# Altium footprint library WSON-12(2.0X3.0).PcbLib: 1 footprints
Each footprint in its own frame and in the unit in brackets; x right, y up, seen from the top. Pads: shape width x height; smd on the part's side, far side on the other; paste and mask are expansions set on the pad; w line width, h text height; cw(c..) or ccw(c..) is an arc to the next point about the centre after c.
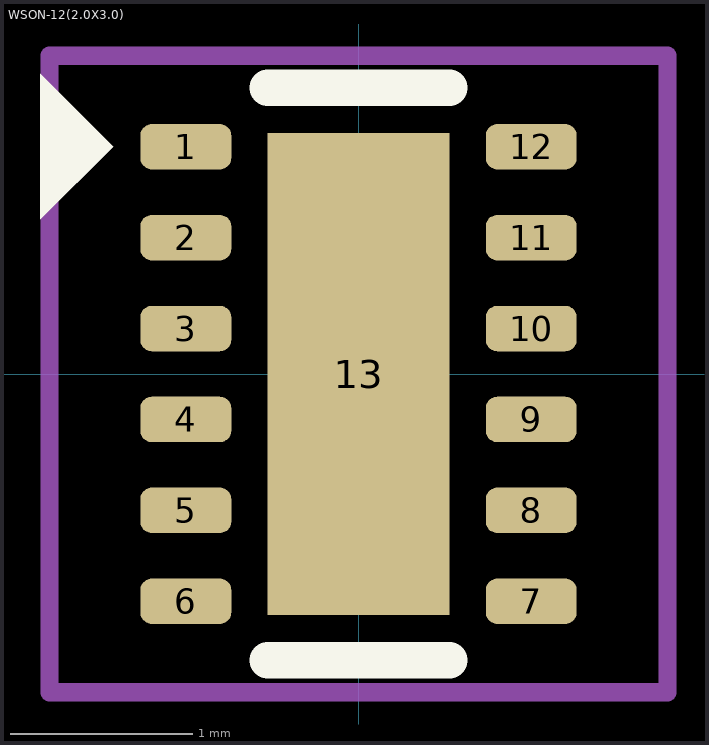
[diagram p0: the footprint, top view; thin cyan lines are the x and y axes]

## WSON-12(2.0X3.0) [mm]
pads (13):
  rrect50% 0.5x0.25 smd: 1(-0.95,1.25) 2(-0.95,0.75) 3(-0.95,0.25) 4(-0.95,-0.25) 5(-0.95,-0.75) 6(-0.95,-1.25) 7(0.95,-1.25) 8(0.95,-0.75) 9(0.95,-0.25) 10(0.95,0.25) 11(0.95,0.75) 12(0.95,1.25)
  rect 1x2.65 smd: 13(0,0)
Top Overlay:
  region: -1.75,0.85 -1.75,1.65 -1.35,1.25
  lines w0.2: -0.5,-1.575 0.5,-1.575 ; -0.5,1.575 0.5,1.575
Top Courtyard:
  lines w0.1: -1.7,-1.75 1.7,-1.75 1.7,1.75 -1.7,1.75 -1.7,-1.75
3D body "TPS62745DSSR(1).STEP": height 0.8, standoff 0, extent -1,-1.5 1,1.5